# EAGLE library part LM22676 (library dubec)
LM22676/-Q1 42 V, 3 A SIMPLE SWITCHER® Step-Down Voltage Regulator
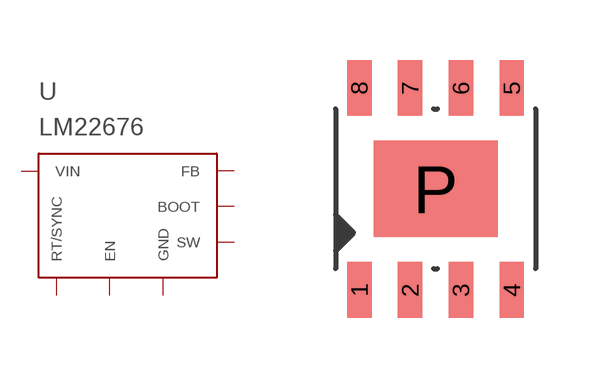
[diagram p9: symbol with the pads of 8-SOIC; footprint 8-SOIC]

Designator prefix -

## LM22676 (DIGIKEY_PART_#: LM22670MRE-5.0/NOPBCT-ND; MANUFACTURER: Texas Instruments; MFG_PART_#: LM22676MRE-5.0/NOPB; TEMP: -40°C ~ 125°C; USD: 4.86)  [8-SOIC]
1  BOOT  pas
3  RT/SYNC  pas
4  FB  pas
5  EN  pas
6  GND  pas
7  VIN  pas
8  SW  pas
P  GND  pas

## Footprint 8-SOIC (pad centres in mm)
smd 0.61 x 1.4: 1 -1.905,-2.53; 2 -0.635,-2.53; 3 0.635,-2.53; 4 1.905,-2.53; 5 1.905,2.53; 6 0.635,2.53; 7 -0.635,2.53; 8 -1.905,2.53
smd 3.1 x 2.41: P 0,0